# Altium schematic symbol library URB_S-6WR3.SchLib: 1 symbol
Pins are listed as number, name and electrical type; pins without a type are passive.

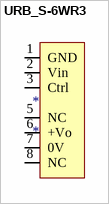
[diagram p0: symbol URB_S-6WR3]

## URB_S-6WR3
designator *
footprint URB_S-6WR3
pins: 1 GND, 2 Vin, 3 Ctrl, 5 NC, 6 +Vo, 7 0V, 8 NC